# Altium integrated library Motorola Video Signal Processor.IntLib: 8 symbols
Pins are listed as number, name and electrical type; pins without a type are passive.

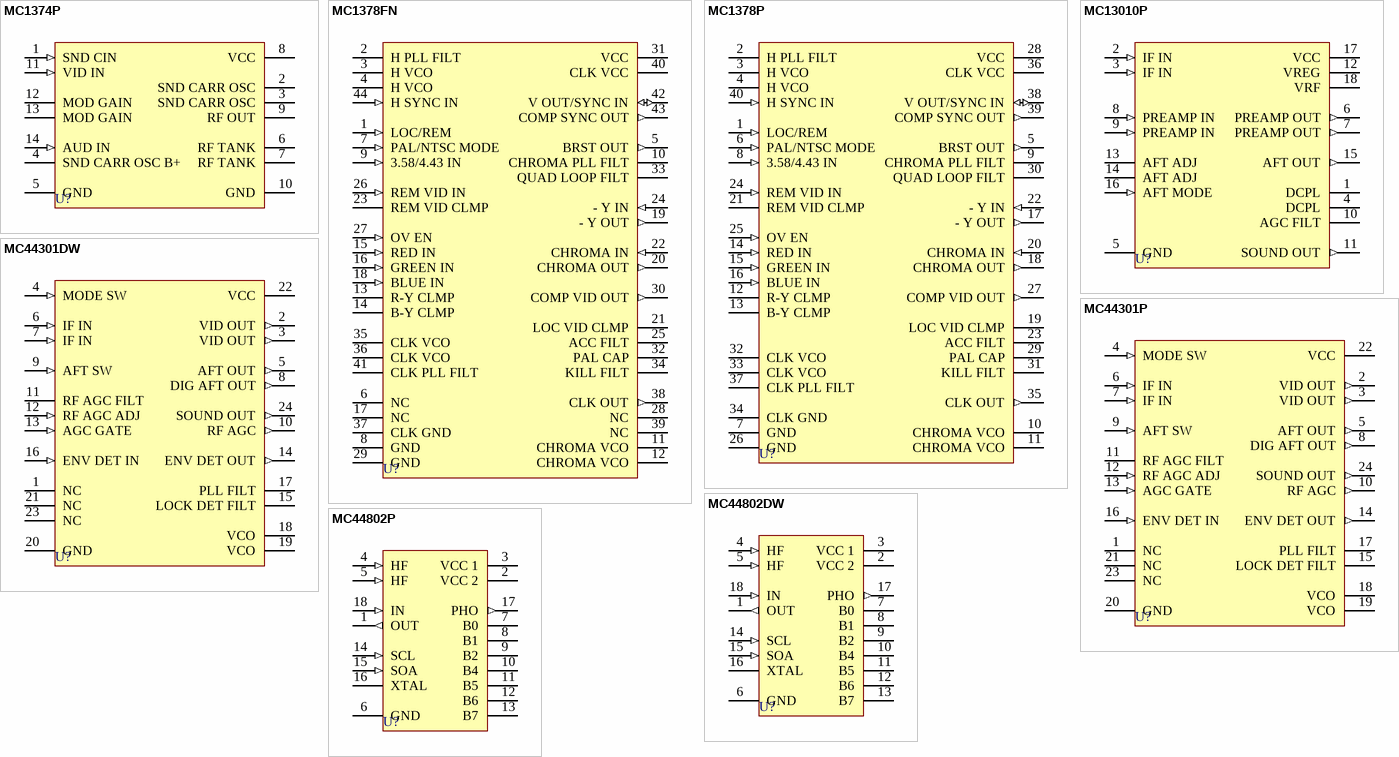
[diagram p0: symbols MC1374P to MC44802P]

## MC1374P
designator U?
TV Modulator Circuit; Published: 17-Jul-2002; LatestRevisionDate: 06-Jun-2005; LatestRevisionNote: Stylized 3D Model Added.; DatasheetVersion: 1988; PackageVersion: 1997; PackageReference: 646-06; Publisher: Altium Limited; PackageDescription: DIP; 14 Leads; Row Spacing 7.62 mm; Pitch 2.54 mm
footprint 646-06 (DIP; 14 Leads; Row Spacing 7.62 mm; Pitch 2.54 mm)
3D model 646-06 (DIP; 14 Leads; Row Spacing 7.62 mm; Pitch 2.54 mm)
pins: 1 SND CIN (in), 2 SND CARR OSC, 3 SND CARR OSC, 4 SND CARR OSC B+, 5 GND (power), 6 RF TANK, 7 RF TANK, 8 VCC (power), 9 RF OUT (oc), 10 GND (power), 11 VID IN (in), 12 MOD GAIN, 13 MOD GAIN, 14 AUD IN (in)

## MC1378FN
designator U?
Complete Color TV Video Overlay Synchronizer; Published: 17-Jul-2002; LatestRevisionDate: 13-Apr-2006; LatestRevisionNote: IPC-7351 Footprint Added.; DatasheetVersion: 1988; PackageVersion: rev3, Feb-2002; PackageReference: 777-02; Publisher: Altium Limited; PackageDescription: 44-Pin Plastic Leaded Chip Carrier 1.27 mm Pitch
footprint 777-02_N (Leaded Chip Carrier, 44-Leads, Body 16.6x16.6mm, Pitch 1.27mm, IPC Medium Density)
footprint 777-02_L (Leaded Chip Carrier, 44-Leads, Body 16.6x16.6mm, Pitch 1.27mm, IPC High Density)
footprint 777-02_M (Leaded Chip Carrier, 44-Leads, Body 16.6x16.6mm, Pitch 1.27mm, IPC Low Density)
3D model MC1378-777-02 (44-Pin Plastic Leaded Chip Carrier 1.27 mm Pitch)
pins: 1 LOC/REM (in), 2 H PLL FILT, 3 H VCO, 4 H VCO, 5 BRST OUT (out), 6 NC, 7 PAL/NTSC MODE (in), 8 GND (power), 9 3.58/4.43 IN (in), 10 CHROMA PLL FILT, 11 CHROMA VCO, 12 CHROMA VCO, 13 R-Y CLMP, 14 B-Y CLMP, 15 RED IN (in), 16 GREEN IN (in), 17 NC, 18 BLUE IN (in), 19 - Y OUT (out), 20 CHROMA OUT (out), 21 LOC VID CLMP, 22 CHROMA IN (in), 23 REM VID CLMP, 24 - Y IN (in), 25 ACC FILT, 26 REM VID IN (in), 27 OV EN (in), 28 NC, 29 GND (power), 30 COMP VID OUT (out), 31 VCC (power), 32 PAL CAP, 33 QUAD LOOP FILT, 34 KILL FILT, 35 CLK VCO, 36 CLK VCO, 37 CLK GND (power), 38 CLK OUT (out), 39 NC, 40 CLK VCC (power), 41 CLK PLL FILT, 42 V OUT/SYNC IN (io), 43 COMP SYNC OUT (out), 44 H SYNC IN (in)

## MC1378P
designator U?
Complete Color TV Video Overlay Synchronizer; Published: 17-Jul-2002; LatestRevisionDate: 06-Jun-2005; LatestRevisionNote: Stylized 3D Model Added.; DatasheetVersion: 1988; PackageReference: 711-03; Publisher: Altium Limited; PackageDescription: DIP; 40 Leads; Row Spacing 15.24 mm; Pitch 2.54 mm
footprint 711-03 (DIP; 40 Leads; Row Spacing 15.24 mm; Pitch 2.54 mm)
3D model 711-03 (DIP; 40 Leads; Row Spacing 15.24 mm; Pitch 2.54 mm)
pins: 1 LOC/REM (in), 2 H PLL FILT, 3 H VCO, 4 H VCO, 5 BRST OUT (out), 6 PAL/NTSC MODE (in), 7 GND (power), 8 3.58/4.43 IN (in), 9 CHROMA PLL FILT, 10 CHROMA VCO, 11 CHROMA VCO, 12 R-Y CLMP, 13 B-Y CLMP, 14 RED IN (in), 15 GREEN IN (in), 16 BLUE IN (in), 17 - Y OUT (out), 18 CHROMA OUT (out), 19 LOC VID CLMP, 20 CHROMA IN (in), 21 REM VID CLMP, 22 - Y IN (in), 23 ACC FILT, 24 REM VID IN (in), 25 OV EN (in), 26 GND (power), 27 COMP VID OUT (out), 28 VCC (power), 29 PAL CAP, 30 QUAD LOOP FILT, 31 KILL FILT, 32 CLK VCO, 33 CLK VCO, 34 CLK GND (power), 35 CLK OUT (out), 36 CLK VCC (power), 37 CLK PLL FILT, 38 V OUT/SYNC IN (io), 39 COMP SYNC OUT (out), 40 H SYNC IN (in)

## MC13010P
designator U?
TV Parallel Sound IF and AFT; Published: 17-Jul-2002; LatestRevisionDate: 06-Jun-2005; LatestRevisionNote: Stylized 3D Model Added.; DatasheetVersion: 1988; PackageReference: 707-02; Publisher: Altium Limited; PackageDescription: DIP; 18 Leads; Row Spacing 7.62 mm; Pitch 2.54 mm
footprint 707-02 (DIP; 18 Leads; Row Spacing 7.62 mm; Pitch 2.54 mm)
3D model 707-02 (DIP; 18 Leads; Row Spacing 7.62 mm; Pitch 2.54 mm)
pins: 1 DCPL, 2 IF IN (in), 3 IF IN (in), 4 DCPL, 5 GND (power), 6 PREAMP OUT (out), 7 PREAMP OUT (out), 8 PREAMP IN (in), 9 PREAMP IN (in), 10 AGC FILT, 11 SOUND OUT (out), 12 VREG (power), 13 AFT ADJ, 14 AFT ADJ, 15 AFT OUT (out), 16 AFT MODE (in), 17 VCC (power), 18 VRF (power)

## MC44301DW
designator U?
System 4 High-Performance Colour TV IF; Published: 17-Jul-2002; LatestRevisionDate: 13-Apr-2006; LatestRevisionNote: IPC-7351 Footprint Added.; DatasheetVersion: 1988; PackageReference: 751E-02; Publisher: Altium Limited; PackageDescription: 24-Pin Small Outline Integrated Circuit 1.27 mm Pitch; Code_IPC: SOIC127P1047-24
footprint 751E-02_N (SOIC, 24-Leads, Body 15.4x7.5mm, Pitch 1.27mm, IPC Medium Density)
footprint 751E-02_L (SOIC, 24-Leads, Body 15.4x7.5mm, Pitch 1.27mm, IPC High Density)
footprint 751E-02_M (SOIC, 24-Leads, Body 15.4x7.5mm, Pitch 1.27mm, IPC Low Density)
3D model 751E-02 (24-Pin Small Outline Integrated Circuit 1.27 mm Pitch)
pins: 1 NC, 2 VID OUT (out), 3 VID OUT (out), 4 MODE SW (in), 5 AFT OUT (out), 6 IF IN (in), 7 IF IN (in), 8 DIG AFT OUT (out), 9 AFT SW (in), 10 RF AGC (out), 11 RF AGC FILT, 12 RF AGC ADJ (in), 13 AGC GATE (in), 14 ENV DET OUT (out), 15 LOCK DET FILT, 16 ENV DET IN (in), 17 PLL FILT, 18 VCO, 19 VCO, 20 GND (power), 21 NC, 22 VCC (power), 23 NC, 24 SOUND OUT (out)

## MC44301P
designator U?
System 4 High-Performance Colour TV IF; Published: 17-Jul-2002; LatestRevisionDate: 06-Jun-2005; LatestRevisionNote: Stylized 3D Model Added.; DatasheetVersion: 1988; PackageReference: 724-03; Publisher: Altium Limited; PackageDescription: DIP; 24 Leads; Row Spacing 7.62 mm; Pitch 2.54 mm; Code_JEDEC: MS-001-AF
footprint 724-03 (DIP; 24 Leads; Row Spacing 7.62 mm; Pitch 2.54 mm)
3D model 724-03 (DIP; 24 Leads; Row Spacing 7.62 mm; Pitch 2.54 mm)
pins: 1 NC, 2 VID OUT (out), 3 VID OUT (out), 4 MODE SW (in), 5 AFT OUT (out), 6 IF IN (in), 7 IF IN (in), 8 DIG AFT OUT (out), 9 AFT SW (in), 10 RF AGC (out), 11 RF AGC FILT, 12 RF AGC ADJ (in), 13 AGC GATE (in), 14 ENV DET OUT (out), 15 LOCK DET FILT, 16 ENV DET IN (in), 17 PLL FILT, 18 VCO, 19 VCO, 20 GND (power), 21 NC, 22 VCC (power), 23 NC, 24 SOUND OUT (out)

## MC44802DW
designator U?
PLL Tuning Circuit with 1.3GHz Prescaler; Published: 17-Jul-2002; LatestRevisionDate: 13-Apr-2006; LatestRevisionNote: IPC-7351 Footprint Added.; DatasheetVersion: 1988; PackageReference: 751C-03; Publisher: Altium Limited; PackageDescription: 18-Pin Small Outline Integrated Circuit 1.27 mm Pitch
footprint 751C-03_N (SOIC, 18-Leads, Body 11.6x7.5mm, Pitch 1.27mm, IPC Medium Density)
footprint 751C-03_L (SOIC, 18-Leads, Body 11.6x7.5mm, Pitch 1.27mm, IPC High Density)
footprint 751C-03_M (SOIC, 18-Leads, Body 11.6x7.5mm, Pitch 1.27mm, IPC Low Density)
3D model 751C-03 (18-Pin Small Outline Integrated Circuit 1.27 mm Pitch)
pins: 1 OUT (out), 2 VCC 2 (power), 3 VCC 1 (power), 4 HF (in), 5 HF (in), 6 GND (power), 7 B0 (oc), 8 B1 (oc), 9 B2 (oc), 10 B4 (oc), 11 B5 (oc), 12 B6 (oc), 13 B7 (oc), 14 SCL (in), 15 SOA (in), 16 XTAL, 17 PHO (out), 18 IN (in)

## MC44802P
designator U?
PLL Tuning Circuit with 1.3GHz Prescaler; Published: 17-Jul-2002; LatestRevisionDate: 06-Jun-2005; LatestRevisionNote: Stylized 3D Model Added.; DatasheetVersion: 1988; PackageReference: 707-02; Publisher: Altium Limited; PackageDescription: DIP; 18 Leads; Row Spacing 7.62 mm; Pitch 2.54 mm
footprint 707-02 (DIP; 18 Leads; Row Spacing 7.62 mm; Pitch 2.54 mm)
3D model 707-02 (DIP; 18 Leads; Row Spacing 7.62 mm; Pitch 2.54 mm)
pins: 1 OUT (out), 2 VCC 2 (power), 3 VCC 1 (power), 4 HF (in), 5 HF (in), 6 GND (power), 7 B0 (oc), 8 B1 (oc), 9 B2 (oc), 10 B4 (oc), 11 B5 (oc), 12 B6 (oc), 13 B7 (oc), 14 SCL (in), 15 SOA (in), 16 XTAL, 17 PHO (out), 18 IN (in)